# Altium footprint library M283.PcbLib: 20 footprints (part 1 of 2)
Each footprint in its own frame and in the unit in brackets; x right, y up, seen from the top. Pads: shape width x height; smd on the part's side, far side on the other; paste and mask are expansions set on the pad; w line width, h text height; cw(c..) or ccw(c..) is an arc to the next point about the centre after c.
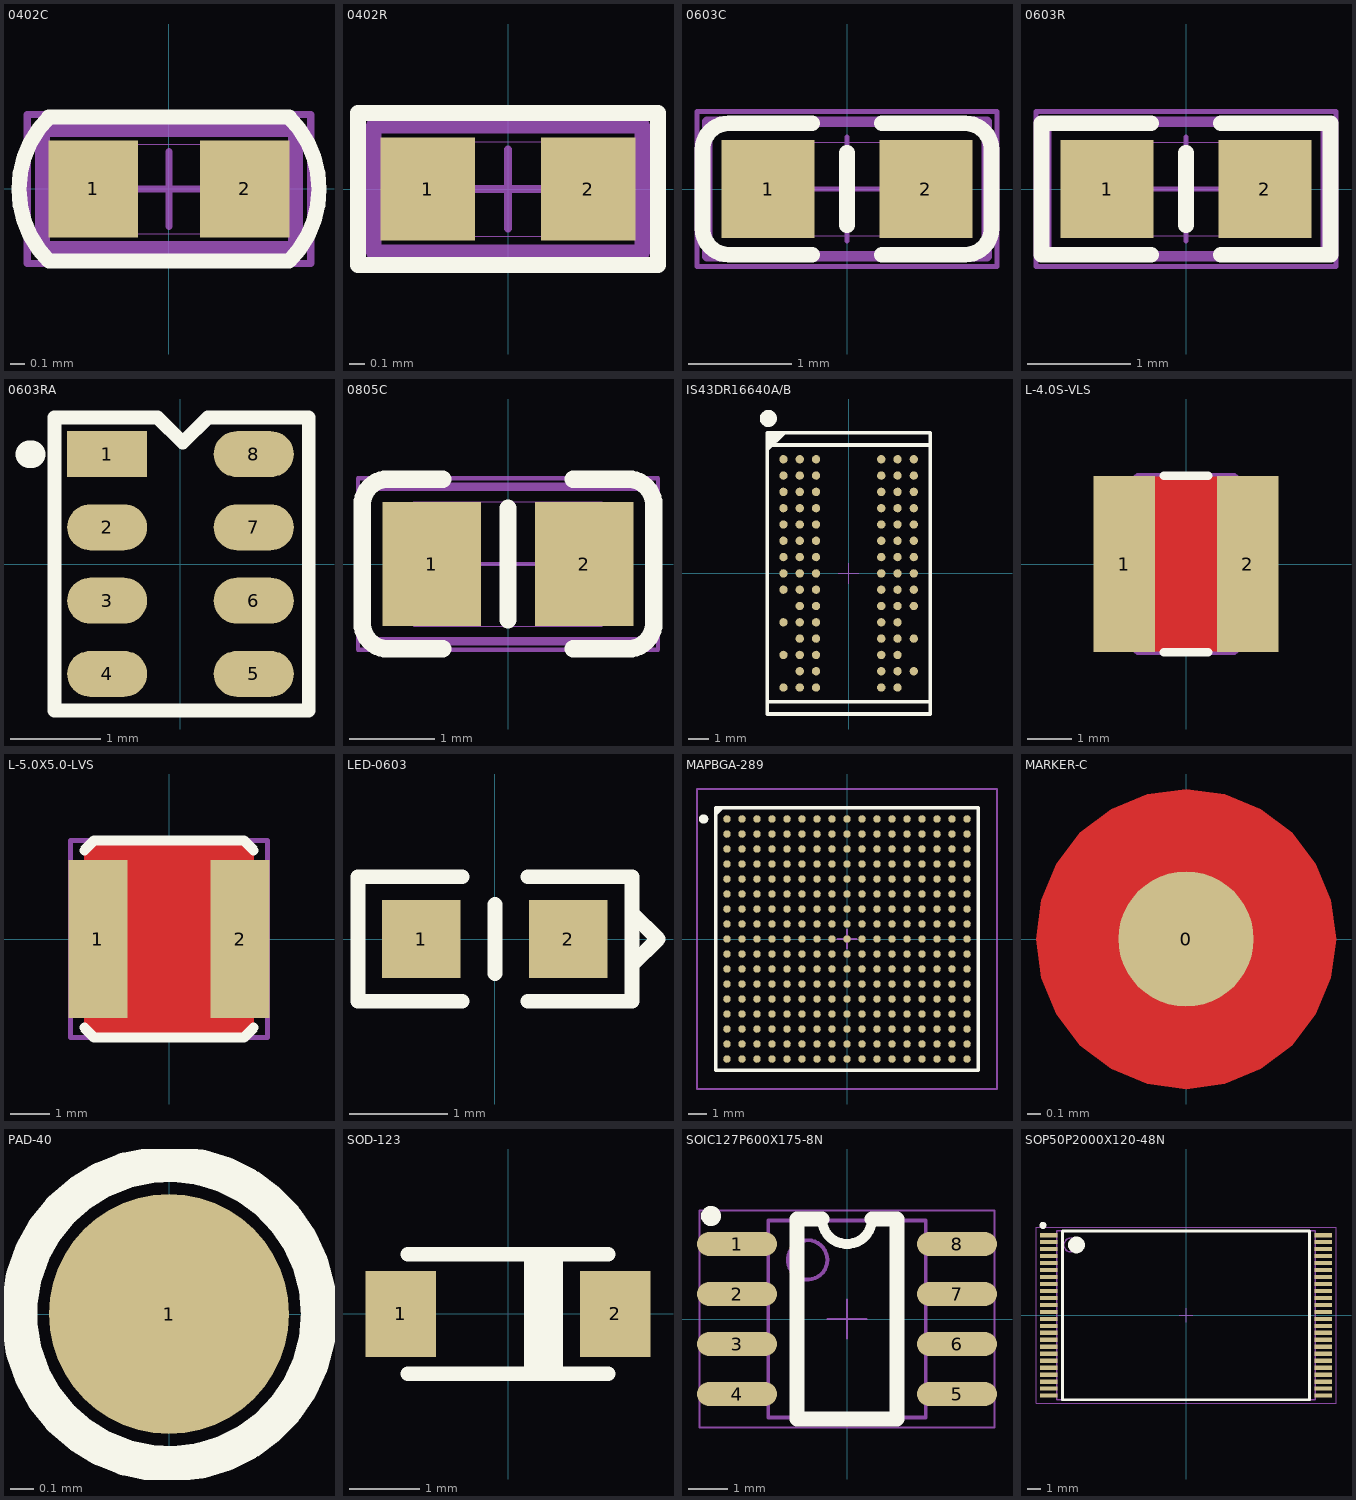
[diagram p0: the footprints below, top view; thin cyan lines are the x and y axes]

## 0402C [mm]
pads (2):
  rect 0.6x0.65 smd: 1(-0.508,0) 2(0.508,0)
Top Overlay:
  lines w0.102: -0.807,0.482 ccw(c-0.326,0) -0.806,-0.483 0.806,-0.483 ccw(c0.326,0) 0.807,0.482 0.806,0.483 -0.806,0.483 -0.807,0.482
Mechanical 15:
  lines w0.1: -0.85,-0.4 -0.85,0.4 0.85,0.4 0.85,-0.4 -0.85,-0.4
  text "1" at -0.082,-0.225 h0.38
Mechanical 16:
  lines w0.001: -0.55,-0.3 -0.55,0.3 0.55,0.3 0.55,-0.3 -0.55,-0.3
  lines w0.05: -0.25,0 0.25,0 ; 0,-0.25 0,0.25 ; -0.95,-0.5 -0.95,0.5 0.95,0.5 0.95,-0.5 -0.95,-0.5
3D body: height 0.5, standoff 0, extent -0.508,-0.229 0.492,0.271

## 0402R [mm]
pads (2):
  rect 0.6x0.65 smd: 1(-0.508,0) 2(0.508,0)
Top Overlay:
  lines w0.102: -0.95,-0.483 -0.95,0.483 0.95,0.483 0.95,-0.483 -0.95,-0.483
Mechanical 15:
  lines w0.1: -0.85,-0.4 0.85,-0.4 0.85,0.4 -0.85,0.4 -0.85,-0.4
  text "1" at -0.082,-0.225 h0.38
Mechanical 16:
  lines w0.001: -0.55,-0.3 0.55,-0.3 0.55,0.3 -0.55,0.3 -0.55,-0.3
  lines w0.05: -0.25,0 0.25,0 ; 0,-0.25 0,0.25 ; -0.95,-0.5 0.95,-0.5 0.95,0.5 -0.95,0.5 -0.95,-0.5
3D body: height 0.35, standoff 0, extent -0.475,-0.254 0.525,0.246

## 0603C [mm]
pads (2):
  rect 0.9x0.95 smd: 1(-0.762,0) 2(0.762,0)
Top Overlay:
  lines w0.152: -0.337,-0.635 -1.143,-0.635 cw(c-1.143,-0.381) -1.397,-0.381 -1.397,0.381 cw(c-1.143,0.381) -1.143,0.635 -0.337,0.635 ; 0,-0.35 0,0.35 ; 0.337,-0.635 1.143,-0.635 ccw(c1.143,-0.381) 1.397,-0.381 1.397,0.381 ccw(c1.143,0.381) 1.143,0.635 0.337,0.635
Mechanical 15:
  lines w0.1: -1.35,-0.65 1.35,-0.65 1.35,0.65 -1.35,0.65 -1.35,-0.65
  text "1" at -0.126,-0.345 h0.58
Mechanical 16:
  lines w0.001: -0.85,-0.45 0.85,-0.45 0.85,0.45 -0.85,0.45 -0.85,-0.45
  lines w0.05: -0.5,0 0.5,0 ; 0,-0.5 0,0.5 ; -1.45,-0.75 1.45,-0.75 1.45,0.75 -1.45,0.75 -1.45,-0.75
3D body: height 0.3, standoff 0, extent -0.789,-0.381 0.811,0.419

## 0603R [mm]
pads (2):
  rect 0.9x0.95 smd: 1(-0.762,0) 2(0.762,0)
Top Overlay:
  lines w0.152: -0.337,-0.635 -1.397,-0.635 -1.397,0.635 -0.337,0.635 ; 0,-0.35 0,0.35 ; 0.337,-0.635 1.397,-0.635 1.397,0.635 0.337,0.635
Mechanical 15:
  lines w0.1: -1.35,-0.65 1.35,-0.65 1.35,0.65 -1.35,0.65 -1.35,-0.65
  text "1" at -0.126,-0.345 h0.58
Mechanical 16:
  lines w0.001: -0.85,-0.45 0.85,-0.45 0.85,0.45 -0.85,0.45 -0.85,-0.45
  lines w0.05: -0.5,0 0.5,0 ; 0,-0.5 0,0.5 ; -1.45,-0.75 1.45,-0.75 1.45,0.75 -1.45,0.75 -1.45,-0.75
3D body: height 0.3, standoff 0, extent -0.8,-0.4 0.8,0.4

## 0603RA [mil]
pads (8):
  rect 35x20 smd: 1(-32,48)
  oval 35x20 smd: 2(-32,16) 3(-32,-16) 4(-32,-48) 5(32,-48) 6(32,-16) 7(32,16) 8(32,48)
Top Overlay:
  lines w6: -55,-64 56,-64 56,64 12,64 1,53 -10,64 -55,64 -55,-64
  lines w12: -66,48 -65,48
3D body: height 21.73, standoff 0, extent 23.62,5.91 33.46,25.59
3D body: height 21.73, standoff 0, extent 23.62,37.4 33.46,57.09
3D body: height 21.73, standoff 0, extent 23.62,-25.59 33.46,-5.91
3D body: height 21.73, standoff 0, extent 23.62,-57.09 33.46,-37.4
3D body: height 21.73, standoff 0, extent -33.46,-57.09 -23.62,-37.4
3D body: height 21.73, standoff 0, extent -33.46,-25.59 -23.62,-5.91
3D body: height 21.73, standoff 0, extent -33.46,37.4 -23.62,57.09
3D body: height 21.73, standoff 0, extent -33.46,5.91 -23.62,25.59
3D body: height 21.65, standoff 20.47, extent -25.59,-62.99 25.59,62.99
3D body: height 20.87, standoff 0, extent -31.5,-62.99 31.5,62.99

## 0805C [mm]
pads (2):
  rect 1.15x1.45 smd: 1(-0.889,0) 2(0.889,0)
Top Overlay:
  lines w0.2: 0,-0.65 0,0.65
  lines w0.203: -0.762,-0.991 -1.397,-0.991 cw(c-1.397,-0.686) -1.702,-0.686 -1.702,0.686 cw(c-1.397,0.686) -1.397,0.991 -0.762,0.991 ; 0.762,-0.991 1.397,-0.991 ccw(c1.397,-0.686) 1.702,-0.686 1.702,0.686 ccw(c1.397,0.686) 1.397,0.991 0.762,0.991
Mechanical 15:
  lines w0.1: -1.65,-0.9 -1.65,0.9 1.65,0.9 1.65,-0.9 -1.65,-0.9
  text "1" at -0.164,-0.45 h0.75
Mechanical 16:
  lines w0.001: -1.1,-0.725 -1.1,0.725 1.1,0.725 1.1,-0.725 -1.1,-0.725
  lines w0.05: -0.5,0 0.5,0 ; 0,-0.5 0,0.5 ; -1.75,-1 -1.75,1 1.75,1 1.75,-1 -1.75,-1
3D body: height 0.78, standoff 0, extent -1,-0.625 1,0.625

## IS43DR16640A/B [mm]
pads (84):
  round 0.41 smd: A1(-3.2,5.6) A2(-2.4,5.6) A3(-1.6,5.6) A7(1.6,5.6) A8(2.4,5.6) A9(3.2,5.6) B1(-3.2,4.8) B2(-2.4,4.8) B3(-1.6,4.8) B7(1.6,4.8) B8(2.4,4.8) B9(3.2,4.8) C1(-3.2,4) C2(-2.4,4) C3(-1.6,4) C7(1.6,4) C8(2.4,4) C9(3.2,4) D1(-3.2,3.2) D2(-2.4,3.2) D3(-1.6,3.2) D7(1.6,3.2) D8(2.4,3.2) D9(3.2,3.2) E1(-3.2,2.4) E2(-2.4,2.4) E3(-1.6,2.4) E7(1.6,2.4) E8(2.4,2.4) E9(3.2,2.4) F1(-3.2,1.6) F2(-2.4,1.6) F3(-1.6,1.6) F7(1.6,1.6) F8(2.4,1.6) F9(3.2,1.6) G1(-3.2,0.8) G2(-2.4,0.8) G3(-1.6,0.8) G7(1.6,0.8) G8(2.4,0.8) G9(3.2,0.8) H1(-3.2,0) H2(-2.4,0) H3(-1.6,0) H7(1.6,0) H8(2.4,0) H9(3.2,0) J1(-3.2,-0.8) J2(-2.4,-0.8) J3(-1.6,-0.8) J7(1.6,-0.8) J8(2.4,-0.8) J9(3.2,-0.8) K2(-2.4,-1.6) K3(-1.6,-1.6) K7(1.6,-1.6) K8(2.4,-1.6) K9(3.2,-1.6) L1(-3.2,-2.4) L2(-2.4,-2.4) L3(-1.6,-2.4) L7(1.6,-2.4) L8(2.4,-2.4) M2(-2.4,-3.2) M3(-1.6,-3.2) M7(1.6,-3.2) M8(2.4,-3.2) M9(3.2,-3.2) N1(-3.2,-4) N2(-2.4,-4) N3(-1.6,-4) N7(1.6,-4) N8(2.4,-4) P2(-2.4,-4.8) P3(-1.6,-4.8) P7(1.6,-4.8) P8(2.4,-4.8) P9(3.2,-4.8) R1(-3.2,-5.6) R2(-2.4,-5.6) R3(-1.6,-5.6) R7(1.6,-5.6) R8(2.4,-5.6)
Top Overlay:
  circle w0.4: c-3.941,7.602 r0.22
  region: -4,6.9 -4,5.969 -3.988,5.969 -3.073,6.883 -3.073,6.9
  lines w0.178: -4,-6.3 4,-6.3 ; -4,6.3 4,6.3 ; -4,-6.9 4,-6.9 4,6.9 -4,6.9 -4,-6.9
Mechanical 16:
  lines w0.05: -0.5,0 0.5,0 ; 0,-0.5 0,0.5

## L-4.0S-VLS [mm]
pads (2):
  rect 1.4x4 smd: 1(-1.4,0) 2(1.4,0)
Top Layer:
  pour cut-out: 0.737,-1.981 0.737,1.981 -0.762,1.981 -0.762,-1.981
Top Overlay:
  lines w0.203: -0.5,-2 0.5,-2 ; -0.5,2 0.5,2
Mechanical 15:
  lines w0.127: -2,-1.289 -2,1.289 ; -1.997,-1.292 -1.092,-2 1.092,-2 1.997,-1.292 ; -1.997,1.292 -1.092,2 1.092,2 1.997,1.292 ; 2,-1.292 2,1.289
3D body: height 1.2, standoff 0, extent -2,-2 2,2

## L-5.0X5.0-LVS [mm]
pads (2):
  rect 1.5x4 smd: 1(-1.8,0) 2(1.8,0)
Top Layer:
  pour cut-out: 2.146,-2.248 1.894,-2.5 -1.894,-2.5 -2.146,-2.248 -2.146,2.248 -1.894,2.5 1.894,2.5 2.146,2.248
Top Overlay:
  lines w0.254: -2.146,-2.248 -1.894,-2.5 1.894,-2.5 2.146,-2.248 ; -2.146,2.248 -1.894,2.5 1.894,2.5 2.146,2.248
Mechanical 15:
  lines w0.127: -0.254,0 0.254,0 ; 0,-0.254 0,0.254 ; -2.5,-2.5 -2.5,2.5 2.5,2.5 2.5,-2.5 -2.5,-2.5

## LED-0603 [mm]
pads (2):
  rect 0.8x0.8 smd: 1(-0.75,0) 2(0.75,0)
Top Overlay:
  lines w0.152: -0.337,-0.635 -1.397,-0.635 -1.397,0.635 -0.337,0.635 ; 0,-0.35 0,0.35 ; 0.337,-0.635 1.397,-0.635 1.397,0.635 0.337,0.635 ; 1.4,-0.264 1.664,0 1.4,0.264
3D body: height 0.4, standoff 0, extent -0.5,-0.403 0.5,0.403
3D body: height 0.3, standoff 0, extent -0.8,-0.4 0.8,0.4

## MAPBGA-289 [mm]
pads (289):
  round 0.4 smd: A1(-6.4,6.4) A2(-5.6,6.4) A3(-4.8,6.4) A4(-4,6.4) A5(-3.2,6.4) A6(-2.4,6.4) A7(-1.6,6.4) A8(-0.8,6.4) A9(0,6.4) A10(0.8,6.4) A11(1.6,6.4) A12(2.4,6.4) A13(3.2,6.4) A14(4,6.4) A15(4.8,6.4) A16(5.6,6.4) A17(6.4,6.4) B1(-6.4,5.6) B2(-5.6,5.6) B3(-4.8,5.6) B4(-4,5.6) B5(-3.2,5.6) B6(-2.4,5.6) B7(-1.6,5.6) B8(-0.8,5.6) B9(0,5.6) B10(0.8,5.6) B11(1.6,5.6) B12(2.4,5.6) B13(3.2,5.6) B14(4,5.6) B15(4.8,5.6) B16(5.6,5.6) B17(6.4,5.6) C1(-6.4,4.8) C2(-5.6,4.8) C3(-4.8,4.8) C4(-4,4.8) C5(-3.2,4.8) C6(-2.4,4.8) C7(-1.6,4.8) C8(-0.8,4.8) C9(0,4.8) C10(0.8,4.8) C11(1.6,4.8) C12(2.4,4.8) C13(3.2,4.8) C14(4,4.8) C15(4.8,4.8) C16(5.6,4.8) C17(6.4,4.8) D1(-6.4,4) D2(-5.6,4) D3(-4.8,4) D4(-4,4) D5(-3.2,4) D6(-2.4,4) D7(-1.6,4) D8(-0.8,4) D9(0,4) D10(0.8,4) D11(1.6,4) D12(2.4,4) D13(3.2,4) D14(4,4) D15(4.8,4) D16(5.6,4) D17(6.4,4) E1(-6.4,3.2) E2(-5.6,3.2) E3(-4.8,3.2) E4(-4,3.2) E5(-3.2,3.2) E6(-2.4,3.2) E7(-1.6,3.2) E8(-0.8,3.2) E9(0,3.2) E10(0.8,3.2) E11(1.6,3.2) E12(2.4,3.2) E13(3.2,3.2) E14(4,3.2) E15(4.8,3.2) E16(5.6,3.2) E17(6.4,3.2) F1(-6.4,2.4) F2(-5.6,2.4) F3(-4.8,2.4) F4(-4,2.4) F5(-3.2,2.4) F6(-2.4,2.4) F7(-1.6,2.4) F8(-0.8,2.4) F9(0,2.4) F10(0.8,2.4) F11(1.6,2.4) F12(2.4,2.4) F13(3.2,2.4) F14(4,2.4) F15(4.8,2.4) F16(5.6,2.4) F17(6.4,2.4) G1(-6.4,1.6) G2(-5.6,1.6) G3(-4.8,1.6) G4(-4,1.6) G5(-3.2,1.6) G6(-2.4,1.6) G7(-1.6,1.6) G8(-0.8,1.6) G9(0,1.6) G10(0.8,1.6) G11(1.6,1.6) G12(2.4,1.6) G13(3.2,1.6) G14(4,1.6) G15(4.8,1.6) G16(5.6,1.6) G17(6.4,1.6) H1(-6.4,0.8) H2(-5.6,0.8) H3(-4.8,0.8) H4(-4,0.8) H5(-3.2,0.8) H6(-2.4,0.8) H7(-1.6,0.8) H8(-0.8,0.8) H9(0,0.8) H10(0.8,0.8) H11(1.6,0.8) H12(2.4,0.8) H13(3.2,0.8) H14(4,0.8) H15(4.8,0.8) H16(5.6,0.8) H17(6.4,0.8) J1(-6.4,0) J2(-5.6,0) J3(-4.8,0) J4(-4,0) J5(-3.2,0) J6(-2.4,0) J7(-1.6,0) J8(-0.8,0) J9(0,0) J10(0.8,0) J11(1.6,0) J12(2.4,0) J13(3.2,0) J14(4,0) J15(4.8,0) J16(5.6,0) J17(6.4,0) K1(-6.4,-0.8) K2(-5.6,-0.8) K3(-4.8,-0.8) K4(-4,-0.8) K5(-3.2,-0.8) K6(-2.4,-0.8) K7(-1.6,-0.8) K8(-0.8,-0.8) K9(0,-0.8) K10(0.8,-0.8) K11(1.6,-0.8) K12(2.4,-0.8) K13(3.2,-0.8) K14(4,-0.8) K15(4.8,-0.8) K16(5.6,-0.8) K17(6.4,-0.8) L1(-6.4,-1.6) L2(-5.6,-1.6) L3(-4.8,-1.6) L4(-4,-1.6) L5(-3.2,-1.6) L6(-2.4,-1.6) L7(-1.6,-1.6) L8(-0.8,-1.6) L9(0,-1.6) L10(0.8,-1.6) L11(1.6,-1.6) L12(2.4,-1.6) L13(3.2,-1.6) L14(4,-1.6) L15(4.8,-1.6) L16(5.6,-1.6) L17(6.4,-1.6) M1(-6.4,-2.4) M2(-5.6,-2.4) M3(-4.8,-2.4) M4(-4,-2.4) M5(-3.2,-2.4) M6(-2.4,-2.4) M7(-1.6,-2.4) M8(-0.8,-2.4) M9(0,-2.4) M10(0.8,-2.4) M11(1.6,-2.4) M12(2.4,-2.4) M13(3.2,-2.4) M14(4,-2.4) M15(4.8,-2.4) M16(5.6,-2.4) M17(6.4,-2.4) N1(-6.4,-3.2) N2(-5.6,-3.2) N3(-4.8,-3.2) N4(-4,-3.2) N5(-3.2,-3.2) N6(-2.4,-3.2) N7(-1.6,-3.2) N8(-0.8,-3.2) N9(0,-3.2) N10(0.8,-3.2) N11(1.6,-3.2) N12(2.4,-3.2) N13(3.2,-3.2) N14(4,-3.2) N15(4.8,-3.2) N16(5.6,-3.2) N17(6.4,-3.2) P1(-6.4,-4) P2(-5.6,-4) P3(-4.8,-4) P4(-4,-4) P5(-3.2,-4) P6(-2.4,-4) P7(-1.6,-4) P8(-0.8,-4) P9(0,-4) P10(0.8,-4) P11(1.6,-4) P12(2.4,-4) P13(3.2,-4) P14(4,-4) P15(4.8,-4) P16(5.6,-4) P17(6.4,-4) R1(-6.4,-4.8) R2(-5.6,-4.8) R3(-4.8,-4.8) R4(-4,-4.8) R5(-3.2,-4.8) R6(-2.4,-4.8) R7(-1.6,-4.8) R8(-0.8,-4.8) R9(0,-4.8) R10(0.8,-4.8) R11(1.6,-4.8) R12(2.4,-4.8) R13(3.2,-4.8) R14(4,-4.8) R15(4.8,-4.8) R16(5.6,-4.8) R17(6.4,-4.8) T1(-6.4,-5.6) T2(-5.6,-5.6) T3(-4.8,-5.6) T4(-4,-5.6) T5(-3.2,-5.6) T6(-2.4,-5.6) T7(-1.6,-5.6) T8(-0.8,-5.6) T9(0,-5.6) T10(0.8,-5.6) T11(1.6,-5.6) T12(2.4,-5.6) T13(3.2,-5.6) T14(4,-5.6) T15(4.8,-5.6) T16(5.6,-5.6) T17(6.4,-5.6) U1(-6.4,-6.4) U2(-5.6,-6.4) U3(-4.8,-6.4) U4(-4,-6.4) U5(-3.2,-6.4) U6(-2.4,-6.4) U7(-1.6,-6.4) U8(-0.8,-6.4) U9(0,-6.4) U10(0.8,-6.4) U11(1.6,-6.4) U12(2.4,-6.4) U13(3.2,-6.4) U14(4,-6.4) U15(4.8,-6.4) U16(5.6,-6.4) U17(6.4,-6.4)
Top Overlay:
  circle w0.25: c-7.65,6.4 r0.125
  region: -6.649,7 -7,6.649 -7,7
  lines w0.2: -7,6.649 -6.649,7 ; -7,-7 -7,7 7,7 7,-7 -7,-7
Mechanical 13:
  lines w0.1: -7,-7 -7,7 7,7 7,-7 -7,-7
Mechanical 15:
  lines w0.1: -0.5,0 0.5,0 ; 0,-0.5 0,0.5 ; -8,-8 -8,8 8,8 8,-8 -8,-8
3D body: height 1.37, standoff 0.3, extent -7,-7 7,7

## MARKER-C [mm]
pads (1):
  round 1 smd paste-1.016 mask+0.5: 0(0,0)
Top Layer:
  pour cut-out: -1.109,0 -1.072,-0.287 -0.961,-0.555 -0.785,-0.785 -0.555,-0.961 -0.287,-1.072 0,-1.109 0.287,-1.072 0.555,-0.961 0.785,-0.785 0.961,-0.555 1.072,-0.287 1.109,0 1.072,0.287 0.961,0.555 0.785,0.785 0.555,0.961 0.287,1.072 0,1.109 -0.287,1.072 -0.555,0.961 -0.785,0.785 -0.961,0.555 -1.072,0.287

## PAD-40 [mil]
pads (1):
  round 40 smd paste-43.31: 1(0,0)
Top Overlay:
  circle w6: c0,0 r25

## SOD-123 [mm]
pads (2):
  rect 1x1.22 smd: 1(-1.524,0) 2(1.524,0)
Top Overlay:
  lines w0.203: -1.425,-0.85 1.425,-0.85 ; -1.425,0.85 1.425,0.85 ; 0.327,-0.85 0.327,0.85 ; 0.505,-0.85 0.505,0.85 ; 0.683,-0.85 0.683,0.85
3D body: height 1.2, standoff 0, extent -1.854,-0.813 1.846,0.787

## SOIC127P600X175-8N [mil]
pads (8):
  oval 80x24 smd: 1(-110,75) 2(-110,25) 3(-110,-25) 4(-110,-75) 5(110,-75) 6(110,-25) 7(110,25) 8(110,75)
Top Overlay:
  circle w10: c-136,103 r5
  lines w10: -25,100 ccw(c0,100) 25,100
  lines w15: -25,100 -50,100 -50,-100 50,-100 50,100 25,100
Mechanical 15:
  circle w3.94: c-39.37,59.06 r19.68
  lines w3.94: -78.74,-98.43 -78.74,98.43 78.74,98.43 78.74,-98.43 -78.74,-98.43
  text "1" at 17.71,-6.47 h29.53
Mechanical 16:
  lines w0.04: -78.74,-98.43 -78.74,98.43 78.74,98.43 78.74,-98.43 -78.74,-98.43
  lines w1.97: -19.68,0 19.68,0 ; 0,-19.68 0,19.68 ; -147.64,-108.27 -147.64,108.27 147.64,108.27 147.64,-108.27 -147.64,-108.27
3D body: height 61.02, standoff -1.97, extent -117.91,-96 117.91,96.91

## SOP50P2000X120-48N [mm]
pads (48):
  rect 1.25x0.3 smd: 1(-9.85,5.75) 2(-9.85,5.25) 3(-9.85,4.75) 4(-9.85,4.25) 5(-9.85,3.75) 6(-9.85,3.25) 7(-9.85,2.75) 8(-9.85,2.25) 9(-9.85,1.75) 10(-9.85,1.25) 11(-9.85,0.75) 12(-9.85,0.25) 13(-9.85,-0.25) 14(-9.85,-0.75) 15(-9.85,-1.25) 16(-9.85,-1.75) 17(-9.85,-2.25) 18(-9.85,-2.75) 19(-9.85,-3.25) 20(-9.85,-3.75) 21(-9.85,-4.25) 22(-9.85,-4.75) 23(-9.85,-5.25) 24(-9.85,-5.75) 25(9.85,-5.75) 26(9.85,-5.25) 27(9.85,-4.75) 28(9.85,-4.25) 29(9.85,-3.75) 30(9.85,-3.25) 31(9.85,-2.75) 32(9.85,-2.25) 33(9.85,-1.75) 34(9.85,-1.25) 35(9.85,-0.75) 36(9.85,-0.25) 37(9.85,0.25) 38(9.85,0.75) 39(9.85,1.25) 40(9.85,1.75) 41(9.85,2.25) 42(9.85,2.75) 43(9.85,3.25) 44(9.85,3.75) 45(9.85,4.25) 46(9.85,4.75) 47(9.85,5.25) 48(9.85,5.75)
Top Overlay:
  circle w0.25: c-10.25,6.45 r0.125
  circle w0.6: c-7.85,5.05 r0.3
  lines w0.2: -8.85,-6.05 8.85,-6.05 8.85,6.05 -8.85,6.05 -8.85,-6.05
Mechanical 15:
  circle w0.1: c-8.25,5.05 r0.5
  lines w0.1: -9.25,-6.05 9.25,-6.05 9.25,6.05 -9.25,6.05 -9.25,-6.05
  text "1" at 0.45,-0.164 h0.75
Mechanical 16:
  lines w0.001: -9.25,-6.05 9.25,-6.05 9.25,6.05 -9.25,6.05 -9.25,-6.05
  lines w0.05: -0.5,0 0.5,0 ; 0,-0.5 0,0.5 ; -10.75,-6.3 10.75,-6.3 10.75,6.3 -10.75,6.3 -10.75,-6.3